# EAGLE library part TFCMF-20801B0T0 (library X893)
http://datasheet.octopart.com/TFCMF-20801B0T0-UTE-Multicomp-datasheet-10032844.pdf
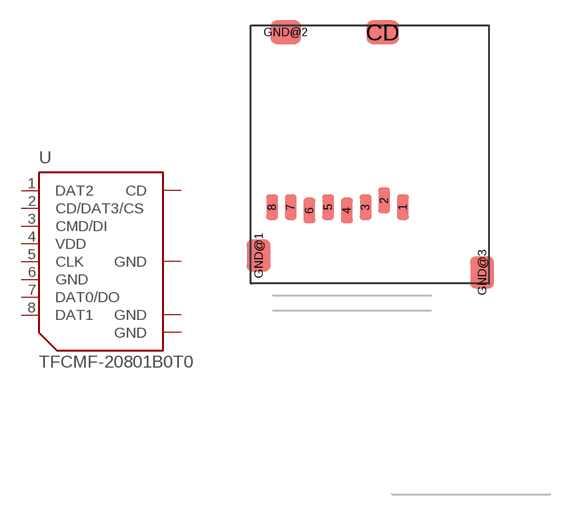
[diagram p124: symbol with the pads of TFCMF-20801B0T0; footprint TFCMF-20801B0T0]

Designator prefix U

## TFCMF-20801B0T0  [TFCMF-20801B0T0]
1  DAT2  pas
2  CD/DAT3/CS  in
3  CMD/DI  in
4  VDD  sup
5  CLK  in
6  GND  sup
7  DAT0/DO  hiz
8  DAT1  pas
CD  CD  pas
GND@1  GND  sup
GND@2  GND  sup
GND@3  GND  sup

## Footprint TFCMF-20801B0T0 (pad centres in mm)
http://www.farnell.com/datasheets/20166.pdf
smd 0.7 x 1.5: 1 1.94,-3.7; 2 0.84,-3.3; 3 -0.26,-3.7; 4 -1.36,-3.9; 5 -2.46,-3.7; 6 -3.56,-3.9; 7 -4.66,-3.7; 8 -5.76,-3.7
smd 1.9 x 1.4: CD 0.75,6.6
smd 1.4 x 1.9: GND@1 -6.55,-6.55; GND@3 6.6,-7.55
smd 1.8 x 1.4: GND@2 -4.95,6.6